# Altium integrated library Cypress Logic Translator.IntLib: 3 symbols
Pins are listed as number, name and electrical type; pins without a type are passive.

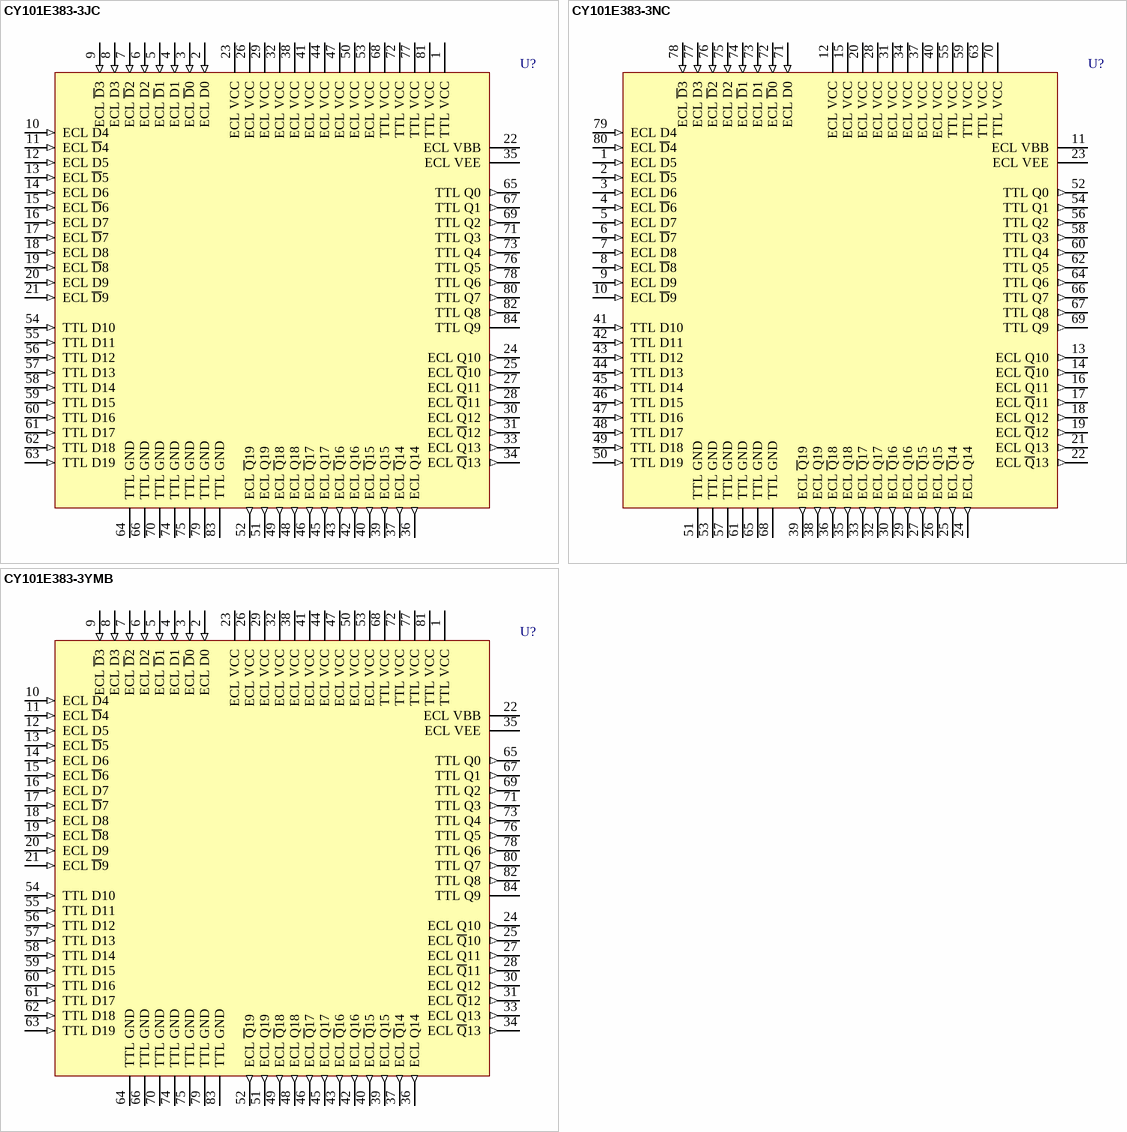
[diagram p0: symbols CY101E383-3JC to CY101E383-3YMB]

## CY101E383-3JC
designator U?
ECL/TTL/ECL Translator and High-Speed Bus Driver; Published: 11-Dec-2002; LatestRevisionDate: 13-Apr-2006; LatestRevisionNote: IPC-7351 Footprint Added.; DatasheetVersion: 11-Apr-1997; PackageVersion: Mar-2001; PackageReference: J83; Publisher: Altium Limited; PackageDescription: 84-Pin Plastic Leaded Chip Carrier 1.27 mm Pitch; Code_IPC: PLCC-84; ComponentLink1Description: Manufacturer Link; ComponentLink1URL: http://www.cypress.com/
footprint J83_N (Leaded Chip Carrier, 84-Leads, Body 29.3x29.3mm, Pitch 1.27mm, IPC Medium Density)
footprint J83_L (Leaded Chip Carrier, 84-Leads, Body 29.3x29.3mm, Pitch 1.27mm, IPC High Density)
footprint J83_M (Leaded Chip Carrier, 84-Leads, Body 29.3x29.3mm, Pitch 1.27mm, IPC Low Density)
3D model CY101E383-J83 (84-Pin Plastic Leaded Chip Carrier 1.27 mm Pitch)
pins: 1 TTL VCC (power), 2 ECL D0 (in), 3 ECL ~{D}0 (in), 4 ECL D1 (in), 5 ECL ~{D}1 (in), 6 ECL D2 (in), 7 ECL ~{D}2 (in), 8 ECL D3 (in), 9 ECL ~{D}3 (in), 10 ECL D4 (in), 11 ECL ~{D}4 (in), 12 ECL D5 (in), 13 ECL ~{D}5 (in), 14 ECL D6 (in), 15 ECL ~{D}6 (in), 16 ECL D7 (in), 17 ECL ~{D}7 (in), 18 ECL D8 (in), 19 ECL ~{D}8 (in), 20 ECL D9 (in), 21 ECL ~{D}9 (in), 22 ECL VBB (power), 23 ECL VCC (power), 24 ECL Q10 (out), 25 ECL ~{Q}10 (out), 26 ECL VCC (power), 27 ECL Q11 (out), 28 ECL ~{Q}11 (out), 29 ECL VCC (power), 30 ECL Q12 (out), 31 ECL ~{Q}12 (out), 32 ECL VCC (power), 33 ECL Q13 (out), 34 ECL ~{Q}13 (out), 35 ECL VEE (power), 36 ECL Q14 (out), 37 ECL ~{Q}14 (out), 38 ECL VCC (power), 39 ECL Q15 (out), 40 ECL ~{Q}15 (out), 41 ECL VCC (power), 42 ECL Q16 (out), 43 ECL ~{Q}16 (out), 44 ECL VCC (power), 45 ECL Q17 (out), 46 ECL ~{Q}17 (out), 47 ECL VCC (power), 48 ECL Q18 (out), 49 ECL ~{Q}18 (out), 50 ECL VCC (power), 51 ECL Q19 (out), 52 ECL ~{Q}19 (out), 53 ECL VCC (power), 54 TTL D10 (in), 55 TTL D11 (in), 56 TTL D12 (in), 57 TTL D13 (in), 58 TTL D14 (in), 59 TTL D15 (in), 60 TTL D16 (in), 61 TTL D17 (in), 62 TTL D18 (in), 63 TTL D19 (in), 64 TTL GND (power), 65 TTL Q0 (out), 66 TTL GND (power), 67 TTL Q1 (out), 68 TTL VCC (power), 69 TTL Q2 (out), 70 TTL GND (power), 71 TTL Q3 (out), 72 TTL VCC (power), 73 TTL Q4 (out), 74 TTL GND (power), 75 TTL GND (power), 76 TTL Q5 (out), 77 TTL VCC (power), 78 TTL Q6 (out), 79 TTL GND (power), 80 TTL Q7 (out), 81 TTL VCC (power), 82 TTL Q8 (out), 83 TTL GND (power), 84 TTL Q9 (power)

## CY101E383-3NC
designator U?
ECL/TTL/ECL Translator and High-Speed Bus Driver; Published: 11-Dec-2002; LatestRevisionDate: 13-Apr-2006; LatestRevisionNote: IPC-7351 Footprint Added.; DatasheetVersion: 11-Apr-1997; PackageVersion: Apr-1997; PackageReference: N80; Publisher: Altium Limited; PackageDescription: 80-Pin Plastic Quad Flat Pack 0.65 mm Pitch; Code_IPC: QFP65P1720X1720-80; ComponentLink1Description: Manufacturer Link; ComponentLink1URL: http://www.cypress.com/
footprint N80_N (QFP, 80-Leads, Body 14 x 14mm, Pitch 0.65mm, IPC Medium Density)
footprint N80_L (QFP, 80-Leads, Body 14 x 14mm, Pitch 0.65mm, IPC High Density)
footprint N80_M (QFP, 80-Leads, Body 14 x 14mm, Pitch 0.65mm, IPC Low Density)
3D model CY101E383-N80 (80-Pin Plastic Quad Flat Pack 0.65 mm Pitch)
pins: 1 ECL D5 (in), 2 ECL ~{D}5 (in), 3 ECL D6 (in), 4 ECL ~{D}6 (in), 5 ECL D7 (in), 6 ECL ~{D}7 (in), 7 ECL D8 (in), 8 ECL ~{D}8 (in), 9 ECL D9 (in), 10 ECL ~{D}9 (in), 11 ECL VBB (power), 12 ECL VCC (power), 13 ECL Q10 (out), 14 ECL ~{Q}10 (out), 15 ECL VCC (power), 16 ECL Q11 (out), 17 ECL ~{Q}11 (out), 18 ECL Q12 (out), 19 ECL ~{Q}12 (out), 20 ECL VCC (power), 21 ECL Q13 (out), 22 ECL ~{Q}13 (out), 23 ECL VEE (power), 24 ECL Q14 (out), 25 ECL ~{Q}14 (out), 26 ECL Q15 (out), 27 ECL ~{Q}15 (out), 28 ECL VCC (power), 29 ECL Q16 (out), 30 ECL ~{Q}16 (out), 31 ECL VCC (power), 32 ECL Q17 (out), 33 ECL ~{Q}17 (out), 34 ECL VCC (power), 35 ECL Q18 (out), 36 ECL ~{Q}18 (out), 37 ECL VCC (power), 38 ECL Q19 (out), 39 ECL ~{Q}19 (out), 40 ECL VCC (power), 41 TTL D10 (in), 42 TTL D11 (in), 43 TTL D12 (in), 44 TTL D13 (in), 45 TTL D14 (in), 46 TTL D15 (in), 47 TTL D16 (in), 48 TTL D17 (in), 49 TTL D18 (in), 50 TTL D19 (in), 51 TTL GND (power), 52 TTL Q0 (out), 53 TTL GND (power), 54 TTL Q1 (out), 55 TTL VCC (power), 56 TTL Q2 (out), 57 TTL GND (power), 58 TTL Q3 (out), 59 TTL VCC (power), 60 TTL Q4 (out), 61 TTL GND (power), 62 TTL Q5 (out), 63 TTL VCC (power), 64 TTL Q6 (out), 65 TTL GND (power), 66 TTL Q7 (out), 67 TTL Q8 (out), 68 TTL GND (power), 69 TTL Q9 (out), 70 TTL VCC (power), 71 ECL D0 (in), 72 ECL ~{D}0 (in), 73 ECL D1 (in), 74 ECL ~{D}1 (in), 75 ECL D2 (in), 76 ECL ~{D}2 (in), 77 ECL D3 (in), 78 ECL ~{D}3 (in), 79 ECL D4 (in), 80 ECL ~{D}4 (in)

## CY101E383-3YMB
designator U?
ECL/TTL/ECL Translator and High-Speed Bus Driver; Published: 11-Dec-2002; LatestRevisionDate: 13-Apr-2006; LatestRevisionNote: IPC-7351 Footprint Added.; DatasheetVersion: 11-Apr-1997; PackageVersion: 15-Mar-2001; PackageReference: Y84; Publisher: Altium Limited; PackageDescription: 84-Pin Ceramic Leaded Chip Carrier 1.27 mm Pitch; ComponentLink1Description: Manufacturer Link; ComponentLink1URL: http://www.cypress.com/
footprint Y84_N (Leaded Chip Carrier, 84-Leads, Body 29.2x29.2mm, Pitch 1.27mm, IPC Medium Density)
footprint Y84_L (Leaded Chip Carrier, 84-Leads, Body 29.2x29.2mm, Pitch 1.27mm, IPC High Density)
footprint Y84_M (Leaded Chip Carrier, 84-Leads, Body 29.2x29.2mm, Pitch 1.27mm, IPC Low Density)
3D model CY101E383-Y84 (84-Pin Ceramic Leaded Chip Carrier 1.27 mm Pitch)
pins: 1 TTL VCC (power), 2 ECL D0 (in), 3 ECL ~{D}0 (in), 4 ECL D1 (in), 5 ECL ~{D}1 (in), 6 ECL D2 (in), 7 ECL ~{D}2 (in), 8 ECL D3 (in), 9 ECL ~{D}3 (in), 10 ECL D4 (in), 11 ECL ~{D}4 (in), 12 ECL D5 (in), 13 ECL ~{D}5 (in), 14 ECL D6 (in), 15 ECL ~{D}6 (in), 16 ECL D7 (in), 17 ECL ~{D}7 (in), 18 ECL D8 (in), 19 ECL ~{D}8 (in), 20 ECL D9 (in), 21 ECL ~{D}9 (in), 22 ECL VBB (power), 23 ECL VCC (power), 24 ECL Q10 (out), 25 ECL ~{Q}10 (out), 26 ECL VCC (power), 27 ECL Q11 (out), 28 ECL ~{Q}11 (out), 29 ECL VCC (power), 30 ECL Q12 (out), 31 ECL ~{Q}12 (out), 32 ECL VCC (power), 33 ECL Q13 (out), 34 ECL ~{Q}13 (out), 35 ECL VEE (power), 36 ECL Q14 (out), 37 ECL ~{Q}14 (out), 38 ECL VCC (power), 39 ECL Q15 (out), 40 ECL ~{Q}15 (out), 41 ECL VCC (power), 42 ECL Q16 (out), 43 ECL ~{Q}16 (out), 44 ECL VCC (power), 45 ECL Q17 (out), 46 ECL ~{Q}17 (out), 47 ECL VCC (power), 48 ECL Q18 (out), 49 ECL ~{Q}18 (out), 50 ECL VCC (power), 51 ECL Q19 (out), 52 ECL ~{Q}19 (out), 53 ECL VCC (power), 54 TTL D10 (in), 55 TTL D11 (in), 56 TTL D12 (in), 57 TTL D13 (in), 58 TTL D14 (in), 59 TTL D15 (in), 60 TTL D16 (in), 61 TTL D17 (in), 62 TTL D18 (in), 63 TTL D19 (in), 64 TTL GND (power), 65 TTL Q0 (out), 66 TTL GND (power), 67 TTL Q1 (out), 68 TTL VCC (power), 69 TTL Q2 (out), 70 TTL GND (power), 71 TTL Q3 (out), 72 TTL VCC (power), 73 TTL Q4 (out), 74 TTL GND (power), 75 TTL GND (power), 76 TTL Q5 (out), 77 TTL VCC (power), 78 TTL Q6 (out), 79 TTL GND (power), 80 TTL Q7 (out), 81 TTL VCC (power), 82 TTL Q8 (out), 83 TTL GND (power), 84 TTL Q9 (power)